# EAGLE library part WE-LAN_749014013 (library WE-LAN)
WE-LAN LAN Transformer 10/100 Base-T Characteristics Power over Ethernet up to 150 Watts and speeds up to 1 Gbit/s Available in SMD Compliant with standards: IEEE 802.3u, IEEE 802.3ab, IEEE 802.3af, IEEE 802.3at and upcoming IEEE 802.3bt Applications Suitable for industrial temperatures from –40 °C up to +125 °C Compatible to Industrial Ethernet systems like EtherCAT or Profinet Compliant with most IC’s for Ethernet applications such as Microchip, Texas Instruments, Broadcom, Linear Technology Hubs, Routers, Switches, IP cameras, IoT applications <https://katalog.we-online.com/media/images/v2/o14800v209%20WE-LAN%20-%20Kopie.jpg> Details see: https://katalog.we-online.com/en/pbs/WE-LAN Updated by Ella Wu 2019-07-17 2019 (C) Würth Elektronik
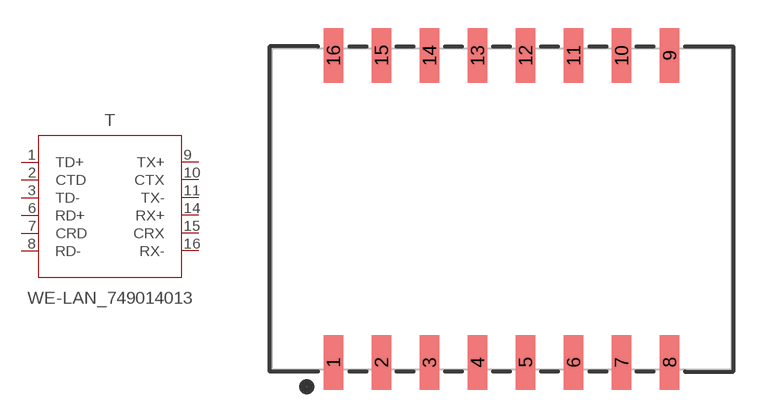
[diagram p17: symbol with the pads of WE-LAN_749014013; footprint WE-LAN_749014013]

Designator prefix T

## WE-LAN_749014013 (DATA-RATE: 10/100 Base-T; DATASHEET-URL: https://www.we-online.com/catalog/datasheet/749014013.pdf; HPLE: No; L: 350uH; MOUNT: SMT; PART-NUMBER: 749014013; POE: PoE (up to 350 mA); PORTS: 1; VALUE: 749014013; VT: 4000 V (RMS))  [WE-LAN_749014013]
1  TD+  pas
2  CTD  pas
3  TD-  pas
6  RD+  pas
7  CRD  pas
8  RD-  pas
9  TX+  pas
10  CTX  pas
11  TX-  pas
14  RX+  pas
15  CRX  pas
16  RX-  pas

## Footprint WE-LAN_749014013 (pad centres in mm)
WE-LAN LAN Transformer 10/100 Base-T
smd 1.02 x 2.87: 1 -8.89,-8.115; 2 -6.35,-8.115; 3 -3.81,-8.115; 4 -1.27,-8.115; 5 1.27,-8.115; 6 3.81,-8.115; 7 6.35,-8.115; 8 8.89,-8.115; 9 8.89,8.115; 10 6.35,8.115; 11 3.81,8.115; 12 1.27,8.115; 13 -1.27,8.115; 14 -3.81,8.115; 15 -6.35,8.115; 16 -8.89,8.115